# EAGLE library part HM514280 (library memories)
DRAM 256K x 18 bits Hitachi
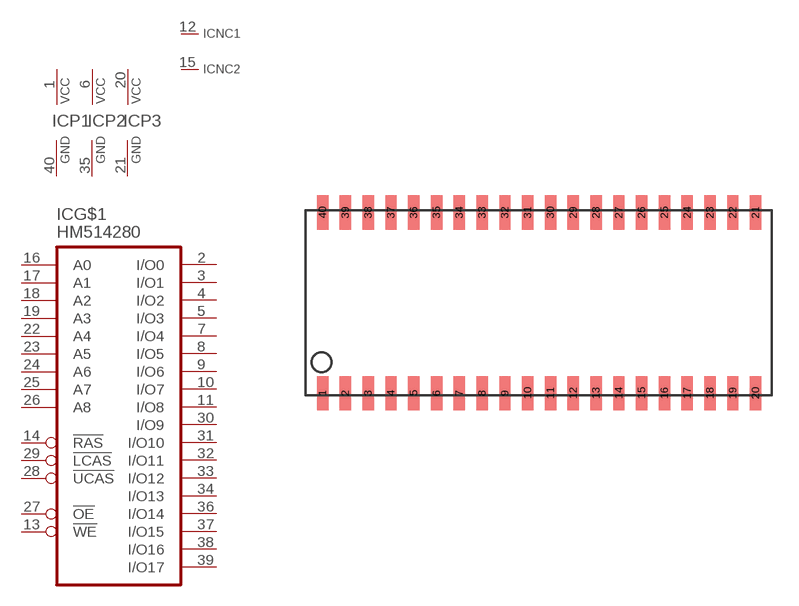
[diagram p3: symbol with the pads of SOJ40-4; footprint SOJ40-4]

Designator prefix IC; gates G$1=DRAM256KX18 P1=PWRN P2=PWRN P3=PWRN NC1=NC NC2=NC

## HM514280J  [SOJ40-4]
1  P1:VCC  pwr
2  G$1:I/O0  hiz
3  G$1:I/O1  hiz
4  G$1:I/O2  hiz
5  G$1:I/O3  hiz
6  P2:VCC  pwr
7  G$1:I/O4  hiz
8  G$1:I/O5  hiz
9  G$1:I/O6  hiz
10  G$1:I/O7  hiz
11  G$1:I/O8  hiz
12  NC1:NC  nc
13  G$1:!WE  in
14  G$1:!RAS  in
15  NC2:NC  nc
16  G$1:A0  in
17  G$1:A1  in
18  G$1:A2  in
19  G$1:A3  in
20  P3:VCC  pwr
21  P3:GND  pwr
22  G$1:A4  in
23  G$1:A5  in
24  G$1:A6  in
25  G$1:A7  in
26  G$1:A8  in
27  G$1:!OE  in
28  G$1:!UCAS  in
29  G$1:!LCAS  in
30  G$1:I/O9  hiz
31  G$1:I/O10  hiz
32  G$1:I/O11  hiz
33  G$1:I/O12  hiz
34  G$1:I/O13  hiz
35  P2:GND  pwr
36  G$1:I/O14  hiz
37  G$1:I/O15  hiz
38  G$1:I/O16  hiz
39  G$1:I/O17  hiz
40  P1:GND  pwr

## Footprint SOJ40-4 (pad centres in mm)
Small Outline J-Bend
smd 0.635 x 1.905: 1 -10.16,-5.029; 2 -8.89,-5.029; 3 -7.62,-5.029; 4 -6.35,-5.029; 5 -5.08,-5.029; 6 -3.81,-5.029; 7 -2.54,-5.029; 8 -1.27,-5.029; 9 0,-5.029; 10 1.27,-5.029; 11 2.54,-5.029; 12 3.81,-5.029; 13 5.08,-5.029; 14 6.35,-5.029; 15 7.62,-5.029; 16 8.89,-5.029; 17 10.16,-5.029; 18 11.43,-5.029; 19 12.7,-5.029; 20 13.97,-5.029; 21 13.97,5.029; 22 12.7,5.029; 23 11.43,5.029; 24 10.16,5.029; 25 8.89,5.029; 26 7.62,5.029; 27 6.35,5.029; 28 5.08,5.029; 29 3.81,5.029; 30 2.54,5.029; 31 1.27,5.029; 32 0,5.029; 33 -1.27,5.029; 34 -2.54,5.029; 35 -3.81,5.029; 36 -5.08,5.029; 37 -6.35,5.029; 38 -7.62,5.029; 39 -8.89,5.029; 40 -10.16,5.029